# EAGLE library part BK3254_F6888 (library bk3254_f6888)
Overview: F-6 888 is the Bluetooth 4.1+EDR module for intel ligent wireless audio transmission products. Library author: https://github.com/LewalskiSebastian Source: ftp://capri.pl/user/smasher/F-6888_V1.1_eng.pdf
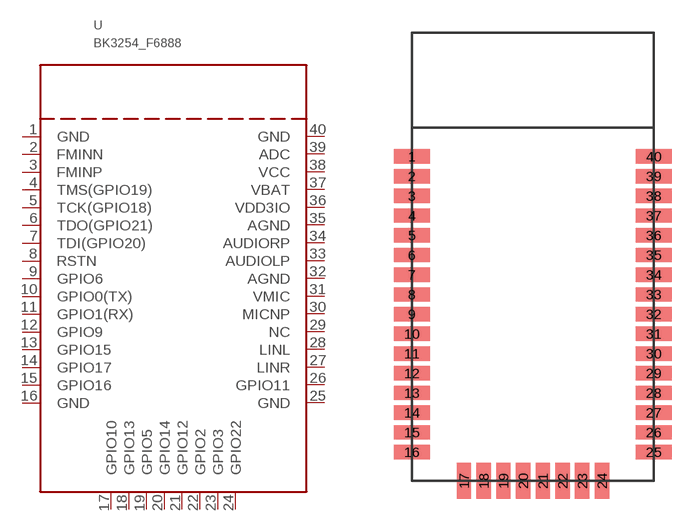
[diagram p0: symbol with the pads of F6888; footprint F6888]

Designator prefix -

## BK3254_F6888  [F6888]
1  GND
2  FMINN
3  FMINP
4  TMS(GPIO19)
5  TCK(GPIO18)
6  TDO(GPIO21)
7  TDI(GPIO20)
8  RSTN
9  GPIO6
10  GPIO0(TX)
11  GPIO1(RX)
12  GPIO9
13  GPIO15
14  GPIO17
15  GPIO16
16  GND
17  GPIO10
18  GPIO13
19  GPIO5
20  GPIO14
21  GPIO12
22  GPIO2
23  GPIO3
24  GPIO22
25  GND
26  GPIO11
27  LINR
28  LINL
29  NC
30  MICNP
31  VMIC
32  AGND
33  AUDIOLP
34  AUDIORP
35  AGND
36  VDD3IO
37  VBAT
38  VCC
39  ADC
40  GND

## Footprint F6888 (pad centres in mm)
smd 2 x 0.8: 1 -6.75,5.6; 2 -6.75,4.5; 3 -6.75,3.4; 4 -6.75,2.3; 5 -6.75,1.2; 6 -6.75,0.1; 7 -6.75,-1; 8 -6.75,-2.1; 9 -6.75,-3.2; 10 -6.75,-4.3; 11 -6.75,-5.4; 12 -6.75,-6.5; 13 -6.75,-7.6; 14 -6.75,-8.7; 15 -6.75,-9.8; 16 -6.75,-10.9; 25 6.75,-10.9; 26 6.75,-9.8; 27 6.75,-8.7; 28 6.75,-7.6; 29 6.75,-6.5; 30 6.75,-5.4; 31 6.75,-4.3; 32 6.75,-3.2; 33 6.75,-2.1; 34 6.75,-1; 35 6.75,0.1; 36 6.75,1.2; 37 6.75,2.3; 38 6.75,3.4; 39 6.75,4.5; 40 6.75,5.6
smd 0.8 x 2: 17 -3.85,-12.5; 18 -2.75,-12.5; 19 -1.65,-12.5; 20 -0.55,-12.5; 21 0.55,-12.5; 22 1.65,-12.5; 23 2.75,-12.5; 24 3.85,-12.5